# EAGLE library part 6CONN_2MM (library bed_components)
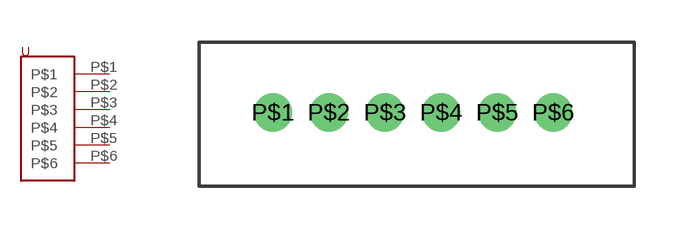
[diagram p3: symbol with the pads of 6CONN_2MM; footprint 6CONN_2MM]

Designator prefix -

## 6CONN_2MM  [6CONN_2MM]
P$1  P$1
P$2  P$2
P$3  P$3
P$4  P$4
P$5  P$5
P$6  P$6

## Footprint 6CONN_2MM (pad centres in mm)
drill 0.85: P$1 0,0; P$2 2,0; P$3 4,0; P$4 6,0; P$5 8,0; P$6 10,0